# Altium schematic symbol library 20021311-00010T4LF.SchLib: 1 symbol
Pins are listed as number, name and electrical type; pins without a type are passive.

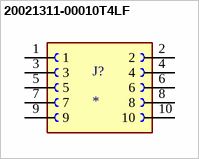
[diagram p0: symbol 20021311-00010T4LF]

## 20021311-00010T4LF
designator J?
MF: {'manufacturer': u'Amphenol ICC'}; MP: 20021311-00010T4LF; Package: None; Price: None; Value: *; Availability: Unavailable
footprint AMPHENOL_20021311-00010T4LF
pins: 1, 2, 3, 4, 5, 6, 7, 8, 9, 10